# EAGLE library part ESP-CORE-BOARD-V2 (library 180118 Library by matsu)
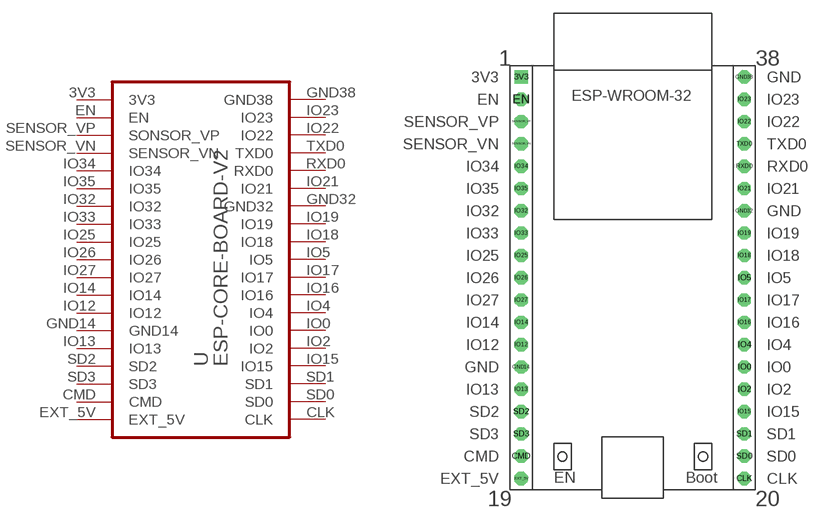
[diagram p55: symbol with the pads of ESP32-CORE-BOARD-V2; footprint ESP32-CORE-BOARD-V2]

Designator prefix -

## ESP-CORE-BOARD-V2  [ESP32-CORE-BOARD-V2]
3V3  3V3  pwr
CLK  CLK
CMD  CMD
EN  EN
EXT_5V  EXT_5V  pwr
GND14  GND14  pwr
GND32  GND32
GND38  GND38
IO0  IO0
IO2  IO2
IO4  IO4
IO5  IO5
IO12  IO12
IO13  IO13
IO14  IO14
IO15  IO15
IO16  IO16
IO17  IO17
IO18  IO18
IO19  IO19
IO21  IO21
IO22  IO22
IO23  IO23
IO25  IO25
IO26  IO26
IO27  IO27
IO32  IO32
IO33  IO33
IO34  IO34
IO35  IO35
RXD0  RXD0
SD0  SD0
SD1  SD1
SD2  SD2
SD3  SD3
SENSOR_VN  SENSOR_VN
SENSOR_VP  SONSOR_VP
TXD0  TXD0

## Footprint ESP32-CORE-BOARD-V2 (pad centres in mm)
drill 1 square: 3V3 -12.7,-1.27
drill 1 octagon: CLK 12.7,-46.99; CMD -12.7,-44.45; EN -12.7,-3.81; EXT_5V -12.7,-46.99; GND14 -12.7,-34.29; GND32 12.7,-16.51; GND38 12.7,-1.27; IO0 12.7,-34.29; IO2 12.7,-36.83; IO4 12.7,-31.75; IO5 12.7,-24.13; IO12 -12.7,-31.75; IO13 -12.7,-36.83; IO14 -12.7,-29.21; IO15 12.7,-39.37; IO16 12.7,-29.21; IO17 12.7,-26.67; IO18 12.7,-21.59; IO19 12.7,-19.05; IO21 12.7,-13.97; IO22 12.7,-6.35; IO23 12.7,-3.81; IO25 -12.7,-21.59; IO26 -12.7,-24.13; IO27 -12.7,-26.67; IO32 -12.7,-16.51; IO33 -12.7,-19.05; IO34 -12.7,-11.43; IO35 -12.7,-13.97; RXD0 12.7,-11.43; SD0 12.7,-44.45; SD1 12.7,-41.91; SD2 -12.7,-39.37; SD3 -12.7,-41.91; SENSOR_VN -12.7,-8.89; SENSOR_VP -12.7,-6.35; TXD0 12.7,-8.89